# Altium schematic symbol library NCP718BSNADJT1G.SchLib: 1 symbol
Pins are listed as number, name and electrical type; pins without a type are passive.

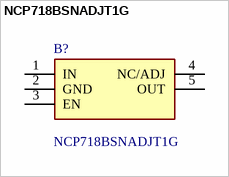
[diagram p0: symbol NCP718BSNADJT1G]

## NCP718BSNADJT1G
designator B?
300 MA LOW IQ, WIDE INPUT; Manufacturer_Name: onsemi; Geometry.Height: 1mm; Mouser Part Number: 863-NCP718BSNADJT1G; Mouser Price/Stock: https://www.mouser.co.uk/ProductDetail/onsemi/NCP718BSNADJT1G?qs=MLItCLRbWszq%252BMkbDp%2FijQ%3D%3D; Manufacturer_Part_Number: NCP718BSNADJT1G; Datasheet Link: http://www.onsemi.com/pub/Collateral/NCP718-D.PDF
footprint SOT95P280X100-5N
pins: 1 IN, 2 GND, 3 EN, 4 NC/ADJ, 5 OUT